# EAGLE library part MMA7260 (library Accelerometers)
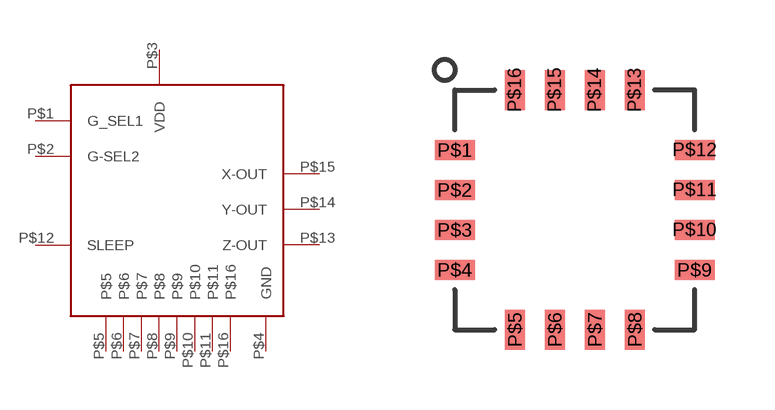
[diagram p1: symbol with the pads of QFN16_1MM; footprint QFN16_1MM]

Designator prefix -

## MMA7260QFN  [QFN16_1MM]
P$1  G_SEL1
P$2  G-SEL2
P$3  VDD
P$4  GND
P$5  P$5
P$6  P$6
P$7  P$7
P$8  P$8
P$9  P$9
P$10  P$10
P$11  P$11
P$12  SLEEP
P$13  Z-OUT
P$14  Y-OUT
P$15  X-OUT
P$16  P$16

## Footprint QFN16_1MM (pad centres in mm)
smd 1 x 0.5: P$1 -6.5,7; P$2 -6.5,6; P$3 -6.5,5; P$4 -6.5,4; P$9 -0.5,4; P$10 -0.5,5; P$11 -0.5,6; P$12 -0.5,7
smd 0.5 x 1: P$5 -5,2.5; P$6 -4,2.5; P$7 -3,2.5; P$8 -2,2.5; P$13 -2,8.5; P$14 -3,8.5; P$15 -4,8.5; P$16 -5,8.5